# Altium footprint library AltiumDesigner.PcbLib: 151 footprints (part 7 of 10)
Each footprint in its own frame and in the unit in brackets; x right, y up, seen from the top. Pads: shape width x height; smd on the part's side, far side on the other; paste and mask are expansions set on the pad; w line width, h text height; cw(c..) or ccw(c..) is an arc to the next point about the centre after c.
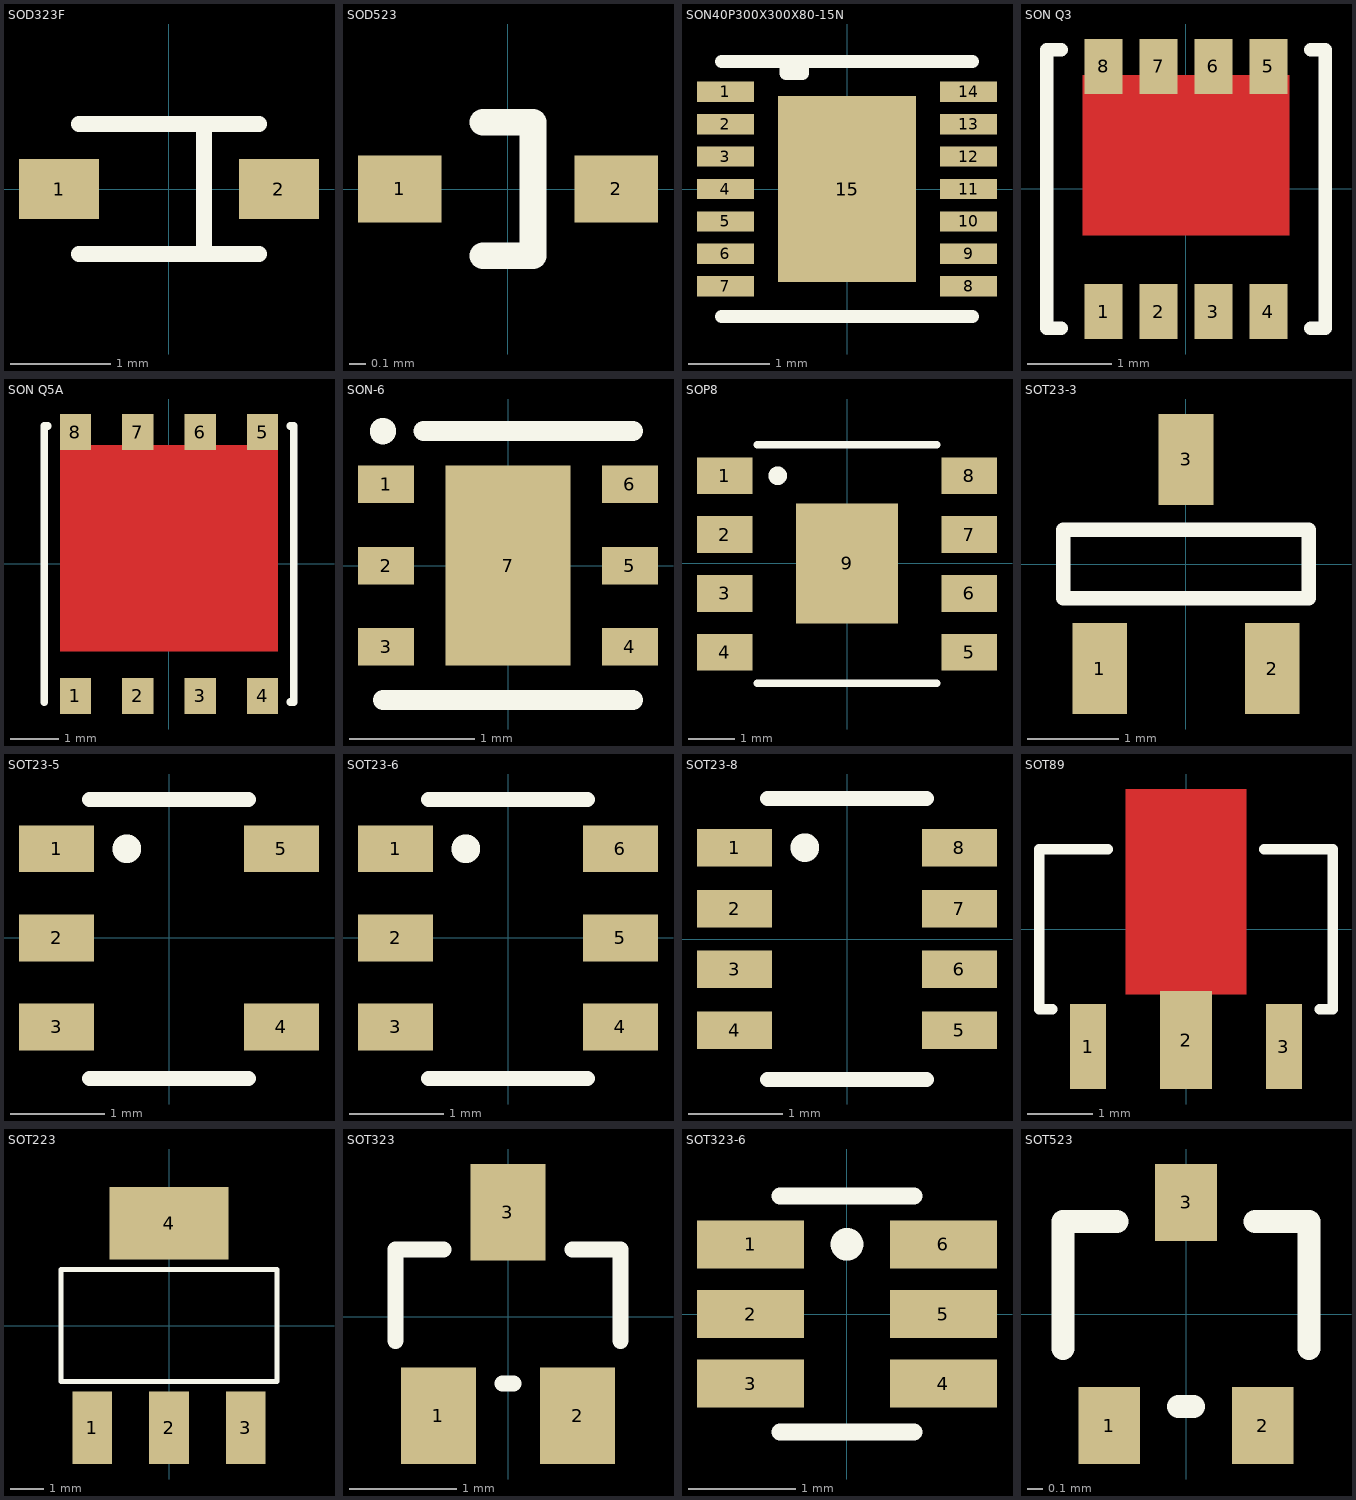
[diagram p6: the footprints below, top view; thin cyan lines are the x and y axes]

## SOD323F [mm]
pads (2):
  rect 0.8x0.6 smd: 1(-1.1,0) 2(1.1,0)
Top Overlay:
  lines w0.16: -0.9,-0.65 0.9,-0.65 ; -0.9,0.65 0.9,0.65 ; 0.35,-0.65 0.35,0.65

## SOD523 [mm]
pads (2):
  rect 0.5x0.4 smd: 1(-0.65,0) 2(0.65,0)
Top Overlay:
  lines w0.16: -0.15,-0.4 0.15,-0.4 0.15,0.4 -0.15,0.4

## SON40P300X300X80-15N [mm]
pads (15):
  rect 0.7x0.25 smd: 1(-1.5,1.2) 2(-1.5,0.8) 3(-1.5,0.4) 4(-1.5,0) 5(-1.5,-0.4) 6(-1.5,-0.8) 7(-1.5,-1.2) 8(1.5,-1.2) 9(1.5,-0.8) 10(1.5,-0.4) 11(1.5,0) 12(1.5,0.4) 13(1.5,0.8) 14(1.5,1.2)
  rect 1.7x2.3 smd: 15(0,0)
Top Overlay:
  lines w0.16: -1.55,-1.575 1.55,-1.575 ; -1.55,1.575 1.55,1.575 ; -0.75,1.575 -0.75,1.425 -0.55,1.425 -0.55,1.575

## SON Q3 [mm]
pads (8):
  rect 0.45x0.65 smd: 1(-0.975,-1.45) 2(-0.325,-1.45) 3(0.325,-1.45) 4(0.975,-1.45) 5(0.975,1.45) 6(0.325,1.45) 7(-0.325,1.45) 8(-0.975,1.45)
Top Layer:
  rectangle: -1.225,-0.55 1.225,1.35
Top Overlay:
  lines w0.16: -1.475,-1.65 -1.65,-1.65 -1.65,1.65 -1.475,1.65 ; 1.475,-1.65 1.65,-1.65 1.65,1.65 1.475,1.65

## SON Q5A [mm]
pads (8):
  rect 0.65x0.75 smd: 1(-1.95,-2.75) 2(-0.65,-2.75) 3(0.65,-2.75) 4(1.95,-2.75) 5(1.95,2.75) 6(0.65,2.75) 7(-0.65,2.75) 8(-1.95,2.75)
Top Layer:
  rectangle: -2.275,-1.825 2.275,2.475
Top Overlay:
  lines w0.16: -2.6,-2.875 -2.6,2.875 -2.525,2.875 ; 2.525,-2.875 2.6,-2.875 2.6,2.875 2.525,2.875

## SON-6 [mm]
pads (7):
  rect 0.45x0.3 smd: 1(-0.975,0.65) 2(-0.975,0) 3(-0.975,-0.65) 4(0.975,-0.65) 5(0.975,0) 6(0.975,0.65)
  rect 1x1.6 smd: 7(0,0)
Top Overlay:
  circle w0.16: c-1,1.075 r0.025
  lines w0.16: -1,-1.075 1,-1.075 ; -0.675,1.075 1,1.075

## SOP8 [mm]
pads (9):
  rect 1.2x0.8 smd: 1(-2.65,1.9) 2(-2.65,0.625) 3(-2.65,-0.65) 4(-2.65,-1.925) 5(2.65,-1.925) 6(2.65,-0.65) 7(2.65,0.625) 8(2.65,1.9)
  rect 2.2x2.6 smd: 9(0,0)
Top Overlay:
  circle w0.3: c-1.5,1.9 r0.05
  lines w0.16: -1.95,-2.6 1.95,-2.6 ; -1.95,2.575 1.95,2.575

## SOT23-3 [mm]
pads (3):
  rect 0.6x1 smd: 1(-0.95,-1.15) 2(0.95,-1.15) 3(0,1.15)
Top Overlay:
  lines w0.16: -1.35,-0.375 -1.35,0.375 1.35,0.375 1.35,-0.375 -1.35,-0.375

## SOT23-5 [mm]
pads (5):
  rect 0.8x0.5 smd: 1(-1.2,0.95) 2(-1.2,0) 3(-1.2,-0.95) 4(1.2,-0.95) 5(1.2,0.95)
Top Overlay:
  circle w0.254: c-0.45,0.95 r0.025
  lines w0.16: -0.85,-1.5 0.85,-1.5 ; -0.85,1.475 0.85,1.475

## SOT23-6 [mm]
pads (6):
  rect 0.8x0.5 smd: 1(-1.2,0.95) 2(-1.2,0) 3(-1.2,-0.95) 4(1.2,-0.95) 5(1.2,0) 6(1.2,0.95)
Top Overlay:
  circle w0.254: c-0.45,0.95 r0.025
  lines w0.16: -0.85,-1.5 0.85,-1.5 ; -0.85,1.475 0.85,1.475

## SOT23-8 [mm]
pads (8):
  rect 0.8x0.4 smd: 1(-1.2,0.975) 2(-1.2,0.325) 3(-1.2,-0.325) 4(-1.2,-0.975) 5(1.2,-0.975) 6(1.2,-0.325) 7(1.2,0.325) 8(1.2,0.975)
Top Overlay:
  circle w0.254: c-0.45,0.975 r0.025
  lines w0.16: -0.85,-1.5 0.85,-1.5 ; -0.85,1.5 0.85,1.5

## SOT89 [mm]
pads (3):
  rect 0.55x1.3 smd: 1(-1.5,-1.8) 3(1.5,-1.8)
  rect 0.8x1.5 smd paste-1: 2(0,-1.7)
Top Layer:
  rectangle: -0.925,-1 0.925,2.15
Top Overlay:
  lines w0.16: -2.05,-1.225 -2.25,-1.225 -2.25,1.225 -1.2,1.225 ; 1.2,1.225 2.25,1.225 2.25,-1.225 2.05,-1.225
Top Paste:
  region: -0.4,2.15 0.4,2.15 0.4,-2.45 -0.4,-2.45

## SOT223 [mm]
pads (4):
  rect 1.2x2.2 smd: 1(-2.325,-3.1) 2(0,-3.1) 3(2.325,-3.1)
  rect 3.6x2.2 smd: 4(0,3.1)
Top Overlay:
  lines w0.16: -3.275,-1.7 -3.275,1.7 3.275,1.7 3.275,-1.7 -3.275,-1.7

## SOT323 [mm]
pads (3):
  rect 0.7x0.9 smd: 1(-0.65,-0.925) 2(0.65,-0.925) 3(0,0.975)
Top Overlay:
  lines w0.15: -1.05,-0.225 -1.05,0.625 -0.6,0.625 ; -0.05,-0.625 0.05,-0.625 ; 0.6,0.625 1.05,0.625 1.05,-0.225

## SOT323-6 [mm]
pads (6):
  rect 1x0.45 smd: 1(-0.9,0.65) 2(-0.9,0) 3(-0.9,-0.65) 4(0.9,-0.65) 5(0.9,0) 6(0.9,0.65)
Top Overlay:
  circle w0.254: c0,0.65 r0.025
  lines w0.16: -0.625,-1.1 0.625,-1.1 ; -0.625,1.1 0.625,1.1

## SOT523 [mm]
pads (3):
  rect 0.4x0.5 smd: 1(-0.5,-0.725) 2(0.5,-0.725) 3(0,0.725)
Top Overlay:
  lines w0.15: -0.8,-0.225 -0.8,0.6 -0.45,0.6 ; -0.05,-0.6 0.05,-0.6 ; 0.45,0.6 0.8,0.6 0.8,-0.225